# Altium schematic symbol library PONT_H.SchLib: 2 symbols
Pins are listed as number, name and electrical type; pins without a type are passive.

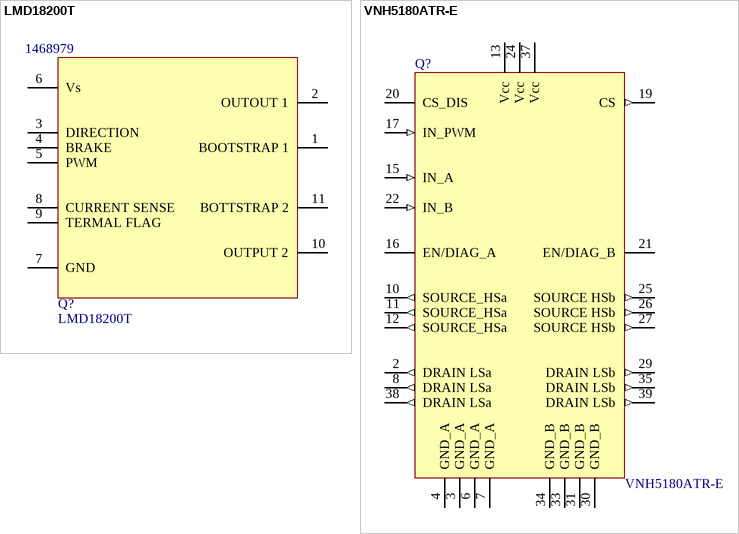
[diagram p0: symbols LMD18200T to VNH5180ATR-E]

## LMD18200T
designator Q?  Supplier Part Number 1: 1468979
Manufacturer Part Number: LMD18200T/NOPB; Manufacturer: TEXAS INSTRUMENTS; Supplier 1: Farnell
footprint LMD18200T
pins: 1 BOOTSTRAP 1, 2 OUTOUT 1, 3 DIRECTION, 4 BRAKE, 5 PWM, 6 Vs, 7 GND, 8 CURRENT SENSE, 9 TERMAL FLAG, 10 OUTPUT 2, 11 BOTTSTRAP 2

## VNH5180ATR-E
designator Q?
IC MOTOR DRIVER PAR 36POWERSSO; Manufacturer: STMicroelectronics; Manufacturer Part Number: VNH5180ATR-E; ComponentLink1URL: http://www.st.com/content/ccc/resource/technical/document/datasheet/ce/72/6c/f3/65/47/45/b3/CD00264619.pdf/files/CD00264619.pdf/jcr:content/translations/en.CD00264619.pdf; ComponentLink1Description: Datasheet; Supplier 1: Digi-Key; Supplier Part Number 1: 497-13075-6-ND
footprint SSOP50P1030X247-36N (SSOP, 36-Leads, Body 10,30x7,50mm, Pitch 0,50mm, IPC Medium Density)
pins: 1 nc hidden, 2 DRAIN LSa (out), 3 GND_A (power), 4 GND_A (power), 5 nc hidden, 6 GND_A (power), 7 GND_A (power), 8 DRAIN LSa (out), 9 nc hidden, 10 SOURCE_HSa (out), 11 SOURCE_HSa (out), 12 SOURCE_HSa (out), 13 Vcc (power), 14 nc hidden, 15 IN_A (in), 16 EN/DIAG_A, 17 IN_PWM (in), 18 nc hidden, 19 CS (out), 20 CS_DIS, 21 EN/DIAG_B, 22 IN_B (in), 23 nc hidden, 24 Vcc (power), 25 SOURCE HSb (out), 26 SOURCE HSb (out), 27 SOURCE HSb (out), 28 nc hidden, 29 DRAIN LSb (out), 30 GND_B (power), 31 GND_B (power), 32 nc hidden, 33 GND_B (power), 34 GND_B (power), 35 DRAIN LSb (out), 36 nc hidden, 37 Vcc (power), 38 DRAIN LSa (out), 39 DRAIN LSb (out)